# EAGLE library part 10-WAY-TERMINAL (library MTM_untested)
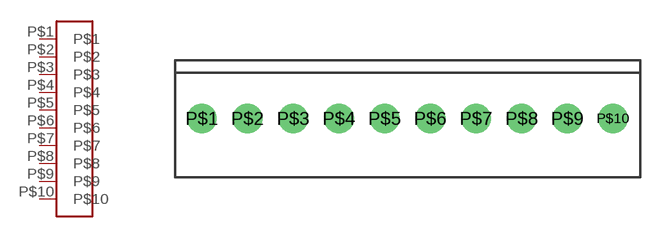
[diagram p15: symbol with the pads of 10-WAY-SCREW-TERMINAL; footprint 10-WAY-SCREW-TERMINAL]

Designator prefix -

## 10-WAY-TERMINAL  [10-WAY-SCREW-TERMINAL]
P$1  P$1
P$2  P$2
P$3  P$3
P$4  P$4
P$5  P$5
P$6  P$6
P$7  P$7
P$8  P$8
P$9  P$9
P$10  P$10

## Footprint 10-WAY-SCREW-TERMINAL (pad centres in mm)
drill 1.1: P$1 -11.43,0; P$2 -8.89,0; P$3 -6.35,0; P$4 -3.81,0; P$5 -1.27,0; P$6 1.27,0; P$7 3.81,0; P$8 6.35,0; P$9 8.89,0; P$10 11.43,0